# EAGLE library part PIC10LF322 (library libami)
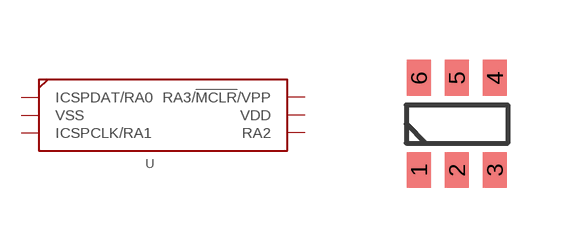
[diagram p5: symbol with the pads of SOT23-6; footprint SOT23-6]

Designator prefix -

## PIC10LF322  [SOT23-6]
1  ICSPDAT/RA0
2  VSS  pwr
3  ICSPCLK/RA1
4  RA2
5  VDD  pwr
6  RA3/!MCLR!/VPP

## Footprint SOT23-6 (pad centres in mm)
Small Outline Transistor 6 lead
smd 0.6 x 0.9: 1 -0.95,-1.15; 2 0,-1.15; 3 0.95,-1.15; 4 0.95,1.15; 5 0,1.15; 6 -0.95,1.15